# Altium footprint library PCB - LEADED - TO - IXYS TO-247 IXFH FLAT.PcbLib: 1 footprints
Each footprint in its own frame and in the unit in brackets; x right, y up, seen from the top. Pads: shape width x height; smd on the part's side, far side on the other; paste and mask are expansions set on the pad; w line width, h text height; cw(c..) or ccw(c..) is an arc to the next point about the centre after c.
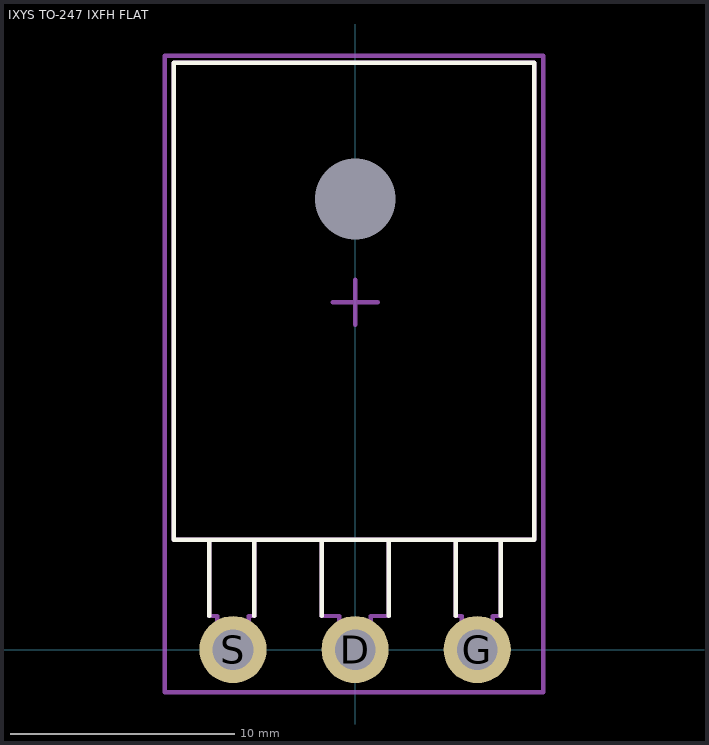
[diagram p0: the footprint, top view; thin cyan lines are the x and y axes]

## IXYS TO-247 IXFH FLAT [mm] "IXYS TO-247 Face down on PCB"
height 5.21
pads (4):
  round 3 hole 1.812: D(0,0) G(5.45,0) S(-5.45,0)
  round 0 hole 3.6 unplated: M(0,20.11)
Top Overlay:
  lines w0.2: -6.5,1.5 -6.5,4.9 ; -4.5,1.5 -4.5,4.9 ; -1.5,1.5 -1.5,4.9 ; 1.5,1.5 1.5,4.9 ; 4.5,1.5 4.5,4.9 ; 6.5,1.5 6.5,4.9 ; -8.1,4.9 -8.1,26.2 8,26.2 8,4.9 -8.1,4.9
Top Assembly:
  lines w0.2: -6.5,4.9 -6.5,1.5 -6.15,1.5 -6.15,0 -4.75,0 -4.75,1.5 -4.5,1.5 -4.5,4.9 ; -1.5,4.9 -1.5,1.5 -0.7,1.5 -0.7,0 0.7,0 0.7,1.5 1.5,1.5 1.5,4.9 ; -1,15.5 1,15.5 ; 0,14.5 0,16.5 ; 4.5,4.9 4.5,1.5 4.75,1.5 4.75,0 6.15,0 6.15,1.5 6.5,1.5 6.5,4.9 ; -8.1,4.9 -8.1,26.2 8,26.2 8,4.9 -8.1,4.9
Top Courtyard (Mech15):
  lines w0.2: -8.5,-1.9 8.4,-1.9 8.4,26.5 -8.5,26.5 -8.5,-1.9
3D body "IXYS TO-247 IXFH FLAT.step": height 5.22, standoff -2.75, extent -8.065,-0.4 8.065,26.26